# EAGLE library part FCI_89898_313LF_26P_CONNECTOR_SMT_FLIPPED (library pimoroni)
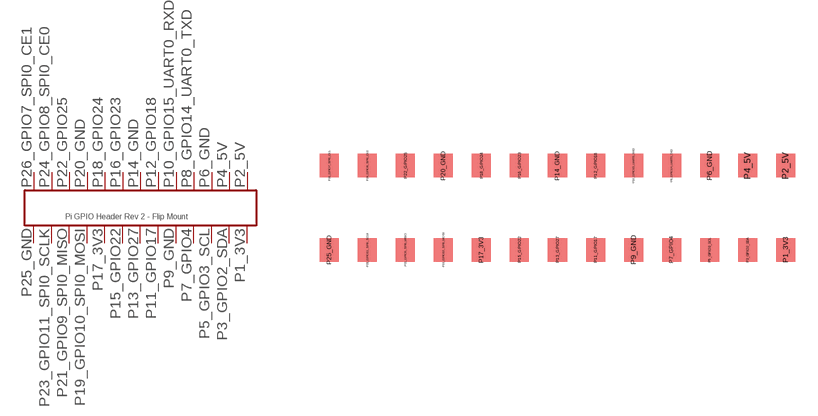
[diagram p0: symbol with the pads of FCI_89898_313LF_26P_CONNECTOR_SMT_FLIPPED; footprint FCI_89898_313LF_26P_CONNECTOR_SMT_FLIPPED]

Designator prefix -

## FCI_89898_313LF_26P_CONNECTOR_SMT_FLIPPED  [FCI_89898_313LF_26P_CONNECTOR_SMT_FLIPPED]
P1_3V3  P1_3V3  pwr
P2_5V  P2_5V  pwr
P3_GPIO2_SDA  P3_GPIO2_SDA
P4_5V  P4_5V  pwr
P5_GPIO3_SCL  P5_GPIO3_SCL
P6_GND  P6_GND  pas
P7_GPIO4  P7_GPIO4
P8_GPIO14_UART0_TXD  P8_GPIO14_UART0_TXD
P9_GND  P9_GND  pas
P10_GPIO15_UART0_RXD  P10_GPIO15_UART0_RXD
P11_GPIO17  P11_GPIO17
P12_GPIO18  P12_GPIO18
P13_GPIO27  P13_GPIO27
P14_GND  P14_GND  pas
P15_GPIO22  P15_GPIO22
P16_GPIO23  P16_GPIO23
P17_3V3  P17_3V3  pwr
P18_GPIO24  P18_GPIO24
P19_GPIO10_SPI0_MOSI  P19_GPIO10_SPI0_MOSI
P20_GND  P20_GND  pas
P21_GPIO9_SPI0_MISO  P21_GPIO9_SPI0_MISO
P22_GPIO25  P22_GPIO25
P23_GPIO11_SPI0_SCLK  P23_GPIO11_SPI0_SCLK
P24_GPIO8_SPI0_CE0  P24_GPIO8_SPI0_CE0
P25_GND  P25_GND  pas
P26_GPIO7_SPI0_CE1  P26_GPIO7_SPI0_CE1

## Footprint FCI_89898_313LF_26P_CONNECTOR_SMT_FLIPPED (pad centres in mm)
smd 1.27 x 1.57: P1_3V3 15.24,-2.81; P2_5V 15.24,2.81; P3_GPIO2_SDA 12.7,-2.81; P4_5V 12.7,2.81; P5_GPIO3_SCL 10.16,-2.81; P6_GND 10.16,2.81; P7_GPIO4 7.62,-2.81; P8_GPIO14_UART0_TXD 7.62,2.81; P9_GND 5.08,-2.81; P10_GPIO15_UART0_RXD 5.08,2.81; P11_GPIO17 2.54,-2.81; P12_GPIO18 2.54,2.81; P13_GPIO27 0,-2.81; P14_GND 0,2.81; P15_GPIO22 -2.54,-2.81; P16_GPIO23 -2.54,2.81; P17_3V3 -5.08,-2.81; P18_GPIO24 -5.08,2.81; P19_GPIO10_SPI0_MOSI -7.62,-2.81; P20_GND -7.62,2.81; P21_GPIO9_SPI0_MISO -10.16,-2.81; P22_GPIO25 -10.16,2.81; P23_GPIO11_SPI0_SCLK -12.7,-2.81; P24_GPIO8_SPI0_CE0 -12.7,2.81; P25_GND -15.24,-2.81; P26_GPIO7_SPI0_CE1 -15.24,2.81